# Altium footprint library EsteemPCB_SOM_Course_pcblib.PcbLib: 80 footprints (part 1 of 5)
Each footprint in its own frame and in the unit in brackets; x right, y up, seen from the top. Pads: shape width x height; smd on the part's side, far side on the other; paste and mask are expansions set on the pad; w line width, h text height; cw(c..) or ccw(c..) is an arc to the next point about the centre after c.
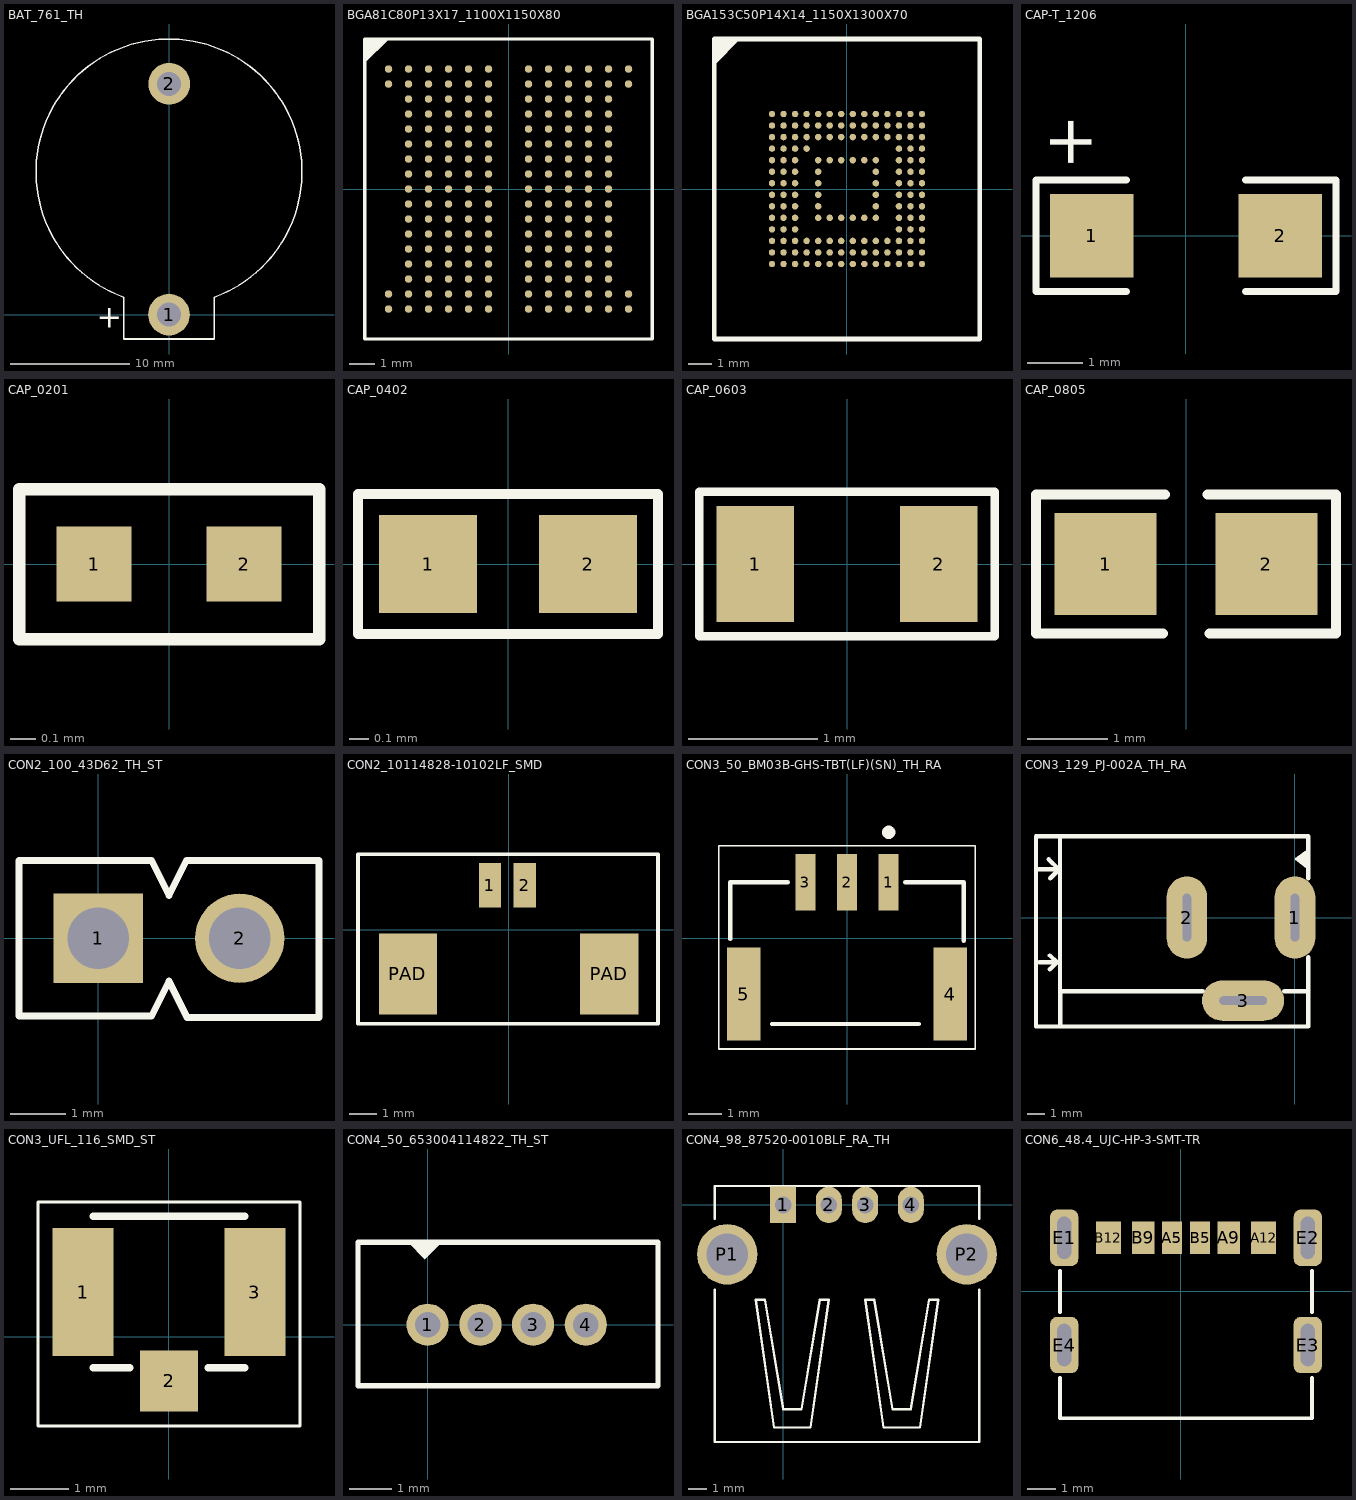
[diagram p0: the footprints below, top view; thin cyan lines are the x and y axes]

## BAT_761_TH [mm] "Battery holder"
height 8.8
pads (2):
  round 3.5 hole 2: 1(0,0) 2(0.013,19.345)
Top Overlay:
  lines w0.127: -3.8,-2.044 3.8,-2.044 ; -3.8,1.472 cw(c0,11.955) 3.8,1.472 ; -3.799,-2.018 -3.799,1.472 ; 3.796,-2.044 3.796,1.472
  text "+" at -6.063,-1.103 h1.88
3D body "User Library-CR2032_HOR_HOLD.step": height 8.5, standoff -4, extent -11,-1.545 11,22.955

## BGA81C80P13X17_1100X1150X80 [mm] "BGA, 81-Leads, Body 11.00x11.50mmx0.80mm, Pitch 0.80mm"
height 0.8
pads (178):
  round 0.3 smd: A1(-4.8,4.8) A2(-4,4.8) A3(-3.2,4.8) A4(-2.4,4.8) A5(-1.6,4.8) A6(-0.8,4.8) A8(0.8,4.8) A9(1.6,4.8) A10(2.4,4.8) A11(3.2,4.8) A12(4,4.8) A13(4.8,4.8) B1(-4.8,4.2) B2(-4,4.2) B3(-3.2,4.2) B4(-2.4,4.2) B5(-1.6,4.2) B6(-0.8,4.2) B8(0.8,4.2) B9(1.6,4.2) B10(2.4,4.2) B11(3.2,4.2) B12(4,4.2) B13(4.8,4.2) C2(-4,3.6) C3(-3.2,3.6) C4(-2.4,3.6) C5(-1.6,3.6) C6(-0.8,3.6) C8(0.8,3.6) C9(1.6,3.6) C10(2.4,3.6) C11(3.2,3.6) C12(4,3.6) D2(-4,3) D3(-3.2,3) D4(-2.4,3) D5(-1.6,3) D6(-0.8,3) D8(0.8,3) D9(1.6,3) D10(2.4,3) D11(3.2,3) D12(4,3) E2(-4,2.4) E3(-3.2,2.4) E4(-2.4,2.4) E5(-1.6,2.4) E6(-0.8,2.4) E8(0.8,2.4) E9(1.6,2.4) E10(2.4,2.4) E11(3.2,2.4) E12(4,2.4) F2(-4,1.8) F3(-3.2,1.8) F4(-2.4,1.8) F5(-1.6,1.8) F6(-0.8,1.8) F8(0.8,1.8) F9(1.6,1.8) F10(2.4,1.8) F11(3.2,1.8) F12(4,1.8) G2(-4,1.2) G3(-3.2,1.2) G4(-2.4,1.2) G5(-1.6,1.2) G6(-0.8,1.2) G8(0.8,1.2) G9(1.6,1.2) G10(2.4,1.2) G11(3.2,1.2) G12(4,1.2) H2(-4,0.6) H3(-3.2,0.6) H4(-2.4,0.6) H5(-1.6,0.6) H6(-0.8,0.6) H8(0.8,0.6) H9(1.6,0.6) H10(2.4,0.6) H11(3.2,0.6) H12(4,0.6) J2(-4,0) J3(-3.2,0) J4(-2.4,0) J5(-1.6,0) J6(-0.8,0) J8(0.8,0) J9(1.6,0) J10(2.4,0) J11(3.2,0) J12(4,0) K2(-4,-0.6) K3(-3.2,-0.6) K4(-2.4,-0.6) K5(-1.6,-0.6) K6(-0.8,-0.6) K8(0.8,-0.6) K9(1.6,-0.6) K10(2.4,-0.6) K11(3.2,-0.6) K12(4,-0.6) L2(-4,-1.2) L3(-3.2,-1.2) L4(-2.4,-1.2) L5(-1.6,-1.2) L6(-0.8,-1.2) L8(0.8,-1.2) L9(1.6,-1.2) L10(2.4,-1.2) L11(3.2,-1.2) L12(4,-1.2) M2(-4,-1.8) M3(-3.2,-1.8) M4(-2.4,-1.8) M5(-1.6,-1.8) M6(-0.8,-1.8) M8(0.8,-1.8) M9(1.6,-1.8) M10(2.4,-1.8) M11(3.2,-1.8) M12(4,-1.8) N2(-4,-2.4) N3(-3.2,-2.4) N4(-2.4,-2.4) N5(-1.6,-2.4) N6(-0.8,-2.4) N8(0.8,-2.4) N9(1.6,-2.4) N10(2.4,-2.4) N11(3.2,-2.4) N12(4,-2.4) P2(-4,-3) P3(-3.2,-3) P4(-2.4,-3) P5(-1.6,-3) P6(-0.8,-3) P8(0.8,-3) P9(1.6,-3) P10(2.4,-3) P11(3.2,-3) P12(4,-3) R2(-4,-3.6) R3(-3.2,-3.6) R4(-2.4,-3.6) R5(-1.6,-3.6) R6(-0.8,-3.6) R8(0.8,-3.6) R9(1.6,-3.6) R10(2.4,-3.6) R11(3.2,-3.6) R12(4,-3.6) T1(-4.8,-4.2) T2(-4,-4.2) T3(-3.2,-4.2) T4(-2.4,-4.2) T5(-1.6,-4.2) T6(-0.8,-4.2) T8(0.8,-4.2) T9(1.6,-4.2) T10(2.4,-4.2) T11(3.2,-4.2) T12(4,-4.2) T13(4.8,-4.2) U1(-4.8,-4.8) U2(-4,-4.8) U3(-3.2,-4.8) U4(-2.4,-4.8) U5(-1.6,-4.8) U6(-0.8,-4.8) U8(0.8,-4.8) U9(1.6,-4.8) U10(2.4,-4.8) U11(3.2,-4.8) U12(4,-4.8) U13(4.8,-4.8)
Top Layer:
  region: -4.801,5.994
Top Overlay:
  region: -5.766,5.029 -4.801,5.994 -5.791,5.994
  lines w0.127: -5.751,-5.999 5.749,-5.999 5.749,6.001 -5.751,6.001 -5.751,-5.999

## BGA153C50P14X14_1150X1300X70 [mm] "BGA, 153-Leads, Body 11.50x13.00mmx0.70mm, Pitch 0.50mm"
height 0.7
pads (153):
  round 0.28 smd: A1(-3.25,3.25) A2(-2.75,3.25) A3(-2.25,3.25) A4(-1.75,3.25) A5(-1.25,3.25) A6(-0.75,3.25) A7(-0.25,3.25) A8(0.25,3.25) A9(0.75,3.25) A10(1.25,3.25) A11(1.75,3.25) A12(2.25,3.25) A13(2.75,3.25) A14(3.25,3.25) B1(-3.25,2.75) B2(-2.75,2.75) B3(-2.25,2.75) B4(-1.75,2.75) B5(-1.25,2.75) B6(-0.75,2.75) B7(-0.25,2.75) B8(0.25,2.75) B9(0.75,2.75) B10(1.25,2.75) B11(1.75,2.75) B12(2.25,2.75) B13(2.75,2.75) B14(3.25,2.75) C1(-3.25,2.25) C2(-2.75,2.25) C3(-2.25,2.25) C4(-1.75,2.25) C5(-1.25,2.25) C6(-0.75,2.25) C7(-0.25,2.25) C8(0.25,2.25) C9(0.75,2.25) C10(1.25,2.25) C11(1.75,2.25) C12(2.25,2.25) C13(2.75,2.25) C14(3.25,2.25) D1(-3.25,1.75) D2(-2.75,1.75) D3(-2.25,1.75) D4(-1.75,1.75) D12(2.25,1.75) D13(2.75,1.75) D14(3.25,1.75) E1(-3.25,1.25) E2(-2.75,1.25) E3(-2.25,1.25) E5(-1.25,1.25) E6(-0.75,1.25) E7(-0.25,1.25) E8(0.25,1.25) E9(0.75,1.25) E10(1.25,1.25) E12(2.25,1.25) E13(2.75,1.25) E14(3.25,1.25) F1(-3.25,0.75) F2(-2.75,0.75) F3(-2.25,0.75) F5(-1.25,0.75) F10(1.25,0.75) F12(2.25,0.75) F13(2.75,0.75) F14(3.25,0.75) G1(-3.25,0.25) G2(-2.75,0.25) G3(-2.25,0.25) G5(-1.25,0.25) G10(1.25,0.25) G12(2.25,0.25) G13(2.75,0.25) G14(3.25,0.25) H1(-3.25,-0.25) H2(-2.75,-0.25) H3(-2.25,-0.25) H5(-1.25,-0.25) H10(1.25,-0.25) H12(2.25,-0.25) H13(2.75,-0.25) H14(3.25,-0.25) J1(-3.25,-0.75) J2(-2.75,-0.75) J3(-2.25,-0.75) J5(-1.25,-0.75) J10(1.25,-0.75) J12(2.25,-0.75) J13(2.75,-0.75) J14(3.25,-0.75) K1(-3.25,-1.25) K2(-2.75,-1.25) K3(-2.25,-1.25) K5(-1.25,-1.25) K6(-0.75,-1.25) K7(-0.25,-1.25) K8(0.25,-1.25) K9(0.75,-1.25) K10(1.25,-1.25) K12(2.25,-1.25) K13(2.75,-1.25) K14(3.25,-1.25) L1(-3.25,-1.75) L2(-2.75,-1.75) L3(-2.25,-1.75) L12(2.25,-1.75) L13(2.75,-1.75) L14(3.25,-1.75) M1(-3.25,-2.25) M2(-2.75,-2.25) M3(-2.25,-2.25) M4(-1.75,-2.25) M5(-1.25,-2.25) M6(-0.75,-2.25) M7(-0.25,-2.25) M8(0.25,-2.25) M9(0.75,-2.25) M10(1.25,-2.25) M11(1.75,-2.25) M12(2.25,-2.25) M13(2.75,-2.25) M14(3.25,-2.25) N1(-3.25,-2.75) N2(-2.75,-2.75) N3(-2.25,-2.75) N4(-1.75,-2.75) N5(-1.25,-2.75) N6(-0.75,-2.75) N7(-0.25,-2.75) N8(0.25,-2.75) N9(0.75,-2.75) N10(1.25,-2.75) N11(1.75,-2.75) N12(2.25,-2.75) N13(2.75,-2.75) N14(3.25,-2.75) P1(-3.25,-3.25) P2(-2.75,-3.25) P3(-2.25,-3.25) P4(-1.75,-3.25) P5(-1.25,-3.25) P6(-0.75,-3.25) P7(-0.25,-3.25) P8(0.25,-3.25) P9(0.75,-3.25) P10(1.25,-3.25) P11(1.75,-3.25) P12(2.25,-3.25) P13(2.75,-3.25) P14(3.25,-3.25)
Top Overlay:
  region: -4.75,6.5 -5.75,5.5 -5.75,6.5
  lines w0.2: -5.75,5.5 -4.75,6.5 ; -5.75,-6.5 -5.75,6.5 5.75,6.5 5.75,-6.5 -5.75,-6.5
Mechanical 13:
  lines w0.1: -5.75,-6.5 -5.75,6.5 5.75,6.5 5.75,-6.5 -5.75,-6.5
3D body "BGA153C50P14X14_1150X1300X70.step": height 0.7, standoff 0, extent -5.75,-6.5 5.75,6.5

## CAP-T_1206 [mil] "Tantalum Capacitor"
height 62.99
pads (2):
  rect 60x60 smd: 1(-67.49,-0.2) 2(67.51,-0.2)
Top Overlay:
  lines w5: -42.49,-40.2 -107.49,-40.2 -107.49,39.8 -42.49,39.8 ; 42.51,-40.2 107.51,-40.2 107.51,39.8 42.51,39.8
  text "+" at -56,47 h60
3D body "1206 SMD Capacitor.STEP": height 39.45, standoff 0, extent -62.99,-31.49 62.99,31.5

## CAP_0201 [mm]
pads (2):
  rect 0.3x0.3 smd: 1(-0.3,0) 2(0.3,0)
Top Overlay:
  lines w0.05: -0.6,-0.3 -0.6,0.3 0.6,0.3 0.6,-0.3 -0.6,-0.3
3D body "User Library-User Library-0201_Cap.step": height 0.31, standoff 0, extent -0.44,-0.15 0.44,0.15

## CAP_0402 [mm] "Capacitor"
height 0.5
pads (2):
  rect 0.5x0.5 smd mask+0.051: 1(-0.406,0) 2(0.406,0)
Top Overlay:
  lines w0.05: -0.762,-0.356 -0.762,0.356 0.762,0.356 0.762,-0.356 -0.762,-0.356
3D body "c0402c101j5gactu.stp": height 0.55, standoff 0, extent -0.525,-0.279 0.525,0.271

## CAP_0603 [mm] "Capacitor"
height 0.8
pads (2):
  rect 0.6x0.9 smd mask+0.051: 1(-0.711,0) 2(0.711,0)
Top Overlay:
  lines w0.064: -1.143,-0.559 -1.143,0.559 1.143,0.559 1.143,-0.559 -1.143,-0.559
3D body "c0603c109c1gactu.stp": height 0.87, standoff 0, extent -0.875,-0.483 0.875,0.467

## CAP_0805 [mm] "Ceramic Capacitor"
height 0.7
pads (2):
  rect 1.27x1.27 smd mask+0.076: 1(-1,0) 2(1,0)
Top Overlay:
  lines w0.127: -0.289,-0.864 -1.864,-0.864 -1.864,0.864 -0.263,0.864 ; 0.27,0.864 1.845,0.864 ; 0.295,-0.864 1.845,-0.864 ; 1.864,-0.864 1.864,0.864
3D body "0805 SMD Capacitor.STEP": height 0.78, standoff 0, extent -1,-0.625 1,0.625

## CON2_100_43D62_TH_ST [mm] "Berg Strip"
height 11.5
pads (2):
  rect 1.6x1.6 hole 1.1: 1(0,0)
  round 1.6 hole 1.1: 2(2.54,0)
Top Overlay:
  lines w0.127: -1.422,-1.397 0.956,-1.397 1.27,-0.77 1.596,-1.422 3.962,-1.422 3.962,1.397 1.583,1.397 1.27,0.77 0.956,1.397 -1.422,1.397 -1.422,-1.397
3D body "STEP-61300211121-rev1.stp": height 8.54, standoff -3, extent -1.27,-1.27 3.81,1.27

## CON2_10114828-10102LF_SMD [mm] "Connector"
height 4.95
pads (4):
  rect 0.8x1.6 smd: 1(-0.675,1.6) 2(0.575,1.6)
  rect 2.1x2.9 smd: PAD(-3.625,-1.6) PAD(3.625,-1.6)
Top Overlay:
  lines w0.127: -5.425,-3.4 -5.425,2.718 5.375,2.718 5.375,1.4 5.375,-3.4 -5.425,-3.4
3D body "10114828.stp": height 4.95, standoff 0, extent -3.805,-2.825 3.855,1.425

## CON3_50_BM03B-GHS-TBT(LF)(SN)_TH_RA [mm] "Connector"
height 4.35
pads (5):
  rect 0.6x1.7 smd: 1(1.25,1.675) 2(0,1.675) 3(-1.25,1.675)
  rect 1x2.8 smd: 4(3.1,-1.675) 5(-3.1,-1.675)
Top Overlay:
  circle w0.2: c1.25,3.175 r0.1
  lines w0.05: -3.85,-3.325 -3.85,2.775 3.85,2.775 3.85,-3.325 -3.85,-3.325
  lines w0.127: -3.5,-0.025 -3.5,1.675 -1.778,1.675 ; -2.25,-2.575 2.15,-2.575 ; 1.75,1.675 3.5,1.675 3.5,-0.075
3D body "BM03B-GHS-TBT.STEP": height 4.18, standoff -0.03, extent -3.48,-2.742 3.52,2.208

## CON3_129_PJ-002A_TH_RA [mm] "DC JACK"
height 11
pads (3):
  oval 2.35x4.75 hole 0.5 slot 2.75 at 90 deg: 1(0,0) 2(-6.248,0)
  oval 4.75x2.35 hole 2.75 slot 0.5 at 90 deg: 3(-2.997,-4.801)
Top Overlay:
  region: 0.773,3.885 0.773,2.92 0.569,2.92 0.112,3.377
  lines w0.127: 0.798,3.936 0.061,3.383 0.81,2.801
  lines w0.254: -14.975,-6.3 -14.975,-6.198 -14.978,-6.195 -14.978,4.699 -13.589,4.699 ; -14.91,-6.3 -13.578,-6.3 ; -14.823,2.793 -13.638,2.793 -14.15,2.281 ; -14.798,-2.59 -13.772,-2.59 ; -14.25,3.381 -13.65,2.781 ; -14.172,-2.99 -13.772,-2.59 ; -14.172,-2.19 -13.772,-2.59 ; -13.589,-4.318 -13.589,4.699 ; -13.578,-4.268 -13.578,-6.3 ; -13.451,-4.268 -5.323,-4.268 ; -0.624,-4.268 0.773,-4.268 0.773,-6.3 -13.578,-6.3 ; 0.762,-4.318 0.762,-2.286 ; 0.762,2.286 0.762,4.699 -13.589,4.699
3D body "pj-002a.stp": height 11.01, standoff -3.49, extent -13.917,-4.929 0.483,4.471

## CON3_UFL_116_SMD_ST [mm] "UFL Connector"
height 1.25
pads (3):
  rect 1.05x2.2 smd: 1(-1.475,0.763) 3(1.475,0.763)
  rect 1x1.05 smd: 2(0,-0.763)
Top Overlay:
  lines w0.05: -2.25,-1.538 -2.25,2.312 2.25,2.312 2.25,-1.538 -2.25,-1.538
  lines w0.127: -1.3,-0.537 -0.67,-0.537 ; -1.3,2.063 1.3,2.063 ; 0.67,-0.537 1.3,-0.537
3D body "u_fl-r-smt-1_10_.stp": height 1.25, standoff 0, extent -1.5,-0.787 1.5,2.312

## CON4_50_653004114822_TH_ST [mm] "Connector Header"
height 4.2
pads (4):
  round 1 hole 0.6: 1(0,0) 2(1.25,0) 3(2.5,0) 4(3.75,0)
Top Overlay:
  region: -0.066,1.557 0.333,1.956 -0.454,1.956
  lines w0.127: -1.651,-1.45 -1.651,1.956 5.461,1.956 5.461,-1.45 -1.651,-1.45
3D body "653004113322 (rev1).stp": height 5.02, standoff 1.07, extent -1.5,-1.45 5.25,1.75
3D body "653004114822 (rev1) (1).stp": height 4.39, standoff -2.11, extent -1.475,-1.3 5.275,1.9

## CON4_98_87520-0010BLF_RA_TH [mm] "USB FEMALE"
height 7
pads (6):
  rect 1.428x2 hole 0.92: 1(0,0)
  oval 1.428x2 hole 0.92: 2(2.5,0) 3(4.5,0) 4(7,0)
  round 3.316 hole 2.3: P1(-3.07,-2.71) P2(10.07,-2.71)
Top Overlay:
  lines w0.127: -3.75,-4.66 -3.75,-13.01 10.75,-13.01 10.75,-4.66 ; -3.75,-0.76 -3.75,1.04 10.75,1.04 10.75,-0.76 ; -1.5,-5.21 -0.5,-12.21 1.5,-12.21 2.5,-5.21 2,-5.21 1,-11.21 0,-11.21 -1,-5.21 -1.5,-5.21 ; 4.5,-5.21 5.5,-12.21 7.5,-12.21 8.5,-5.21 8,-5.21 7,-11.21 6,-11.21 5,-5.21 4.5,-5.21
3D body "87520-0010BLF--3DModel-STEP-56544.STEP": height 7.75, standoff -2.8, extent -3.75,-13.21 10.75,0.79

## CON6_48.4_UJC-HP-3-SMT-TR [mm] "Type-C Connector"
height 5.56
pads (10):
  rect 0.7x1.15 smd: A5(-0.312,1.9) B5(0.688,1.9)
  rect 0.8x1.15 smd: A9(1.708,1.9) B9(-1.332,1.9)
  rect 0.9x1.15 smd: A12(2.938,1.9) B12(-2.562,1.9)
  rrect50% 1x2 hole 1.5 slot 0.5 at 0 deg unplated: E1(-4.132,1.9) E2(4.508,1.9) E3(4.508,-1.9) E4(-4.132,-1.9)
Top Overlay:
  lines w0.127: -4.282,-3.07 -4.282,-4.5 4.658,-4.5 4.658,-3.07 ; -4.282,-0.73 -4.282,0.73 ; 4.658,-0.73 4.658,0.73
Mechanical 1:
  lines w0: -4.382,-2.25 ccw(c-4.132,-2.25) -4.132,-2.5 ccw(c-4.132,-2.25) -3.882,-2.25 -3.882,-1.55 ccw(c-4.132,-1.55) -4.132,-1.3 ccw(c-4.132,-1.55) -4.382,-1.55 -4.382,-2.25 ; -4.382,1.55 ccw(c-4.132,1.55) -4.132,1.3 ccw(c-4.132,1.55) -3.882,1.55 -3.882,2.25 ccw(c-4.132,2.25) -4.132,2.5 ccw(c-4.132,2.25) -4.382,2.25 -4.382,1.55 ; 4.258,-2.25 ccw(c4.508,-2.25) 4.508,-2.5 ccw(c4.508,-2.25) 4.758,-2.25 4.758,-1.55 ccw(c4.508,-1.55) 4.508,-1.3 ccw(c4.508,-1.55) 4.258,-1.55 4.258,-2.25 ; 4.258,1.55 ccw(c4.508,1.55) 4.508,1.3 ccw(c4.508,1.55) 4.758,1.55 4.758,2.25 ccw(c4.508,2.25) 4.508,2.5 ccw(c4.508,2.25) 4.258,2.25 4.258,1.55
3D body "User Library-USB_Type_C_6pin.step": height 3.42, standoff -0.8, extent -4.268,-4.495 4.672,2.305